# EAGLE library part AD8231 (library HomeMade)
Digitally Programmable Instrumentation Amplifier Pin-programmable gain G = 1, 2, 4, 8, 16, 32, 64, or 128 Single-supply range: 3V to 5V Dual-supply range: ±1.5V to ±2.5V
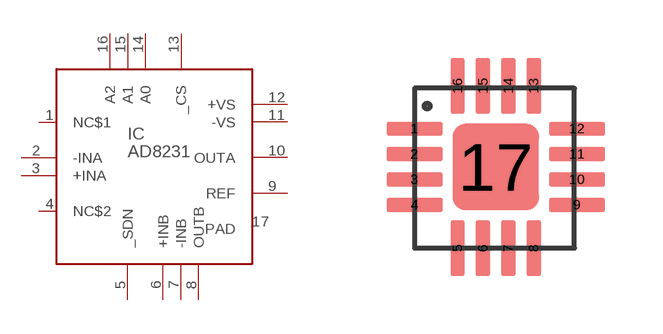
[diagram p12: symbol with the pads of LFCSP16; footprint LFCSP16]

Designator prefix IC

## AD8231  [LFCSP16]
1  NC$1  nc
2  -INA  in
3  +INA  in
4  NC$2  nc
5  _SDN  in
6  +INB  in
7  -INB  in
8  OUTB  out
9  REF  in
10  OUTA  out
11  -VS  pwr
12  +VS  pwr
13  _CS  in
14  A0  in
15  A1  in
16  A2  in
17  PAD  pwr

## Footprint LFCSP16 (pad centres in mm)
smd 1.397 x 0.356: 1 -1.905,1.079; 2 -1.905,0.445; 3 -1.905,-0.191; 4 -1.905,-0.826; 9 2.159,-0.826; 10 2.159,-0.191; 11 2.159,0.445; 12 2.159,1.079
smd 0.356 x 1.397: 5 -0.826,-1.905; 6 -0.191,-1.905; 7 0.445,-1.905; 8 1.079,-1.905; 13 1.079,2.159; 14 0.445,2.159; 15 -0.191,2.159; 16 -0.826,2.159
smd 2.159 x 2.159: 17 0.127,0.127